# Altium footprint library EEE-FTH101XAP.PcbLib: 3 footprints
Each footprint in its own frame and in the unit in brackets; x right, y up, seen from the top. Pads: shape width x height; smd on the part's side, far side on the other; paste and mask are expansions set on the pad; w line width, h text height; cw(c..) or ccw(c..) is an arc to the next point about the centre after c.
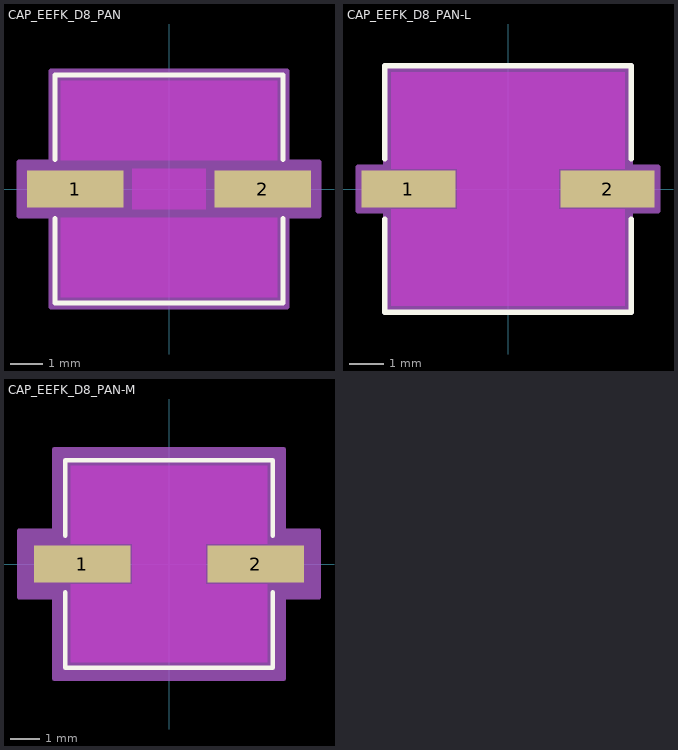
[diagram p0: the footprints below, top view; thin cyan lines are the x and y axes]

## CAP_EEFK_D8_PAN [mm]
pads (2):
  rect 2.991x1.162 smd paste+0 mask+0: 1(-2.903,0) 2(2.903,0)
Top Layer keep-out:
  region: -1.143,-0.632 -1.143,0.632 1.143,0.632 1.143,-0.632
  region: -3.353,0.889 -3.353,3.353 3.353,3.353 3.353,0.889
  region: -3.353,-3.353 -3.353,-0.889 3.353,-0.889 3.353,-3.353
Top Overlay:
  lines w0.152: -3.531,-0.914 -3.531,-3.531 3.531,-3.531 3.531,-0.914 ; -3.531,0.914 -3.531,3.531 3.531,3.531 3.531,0.914
Keep-Out Layer:
  region: -1.143,-0.632 -1.143,0.632 1.143,0.632 1.143,-0.632
Mechanical 13:
  lines w0.025: -3.404,-1.702 -1.702,-3.404 ; -3.404,1.702 -1.702,3.404 ; -3.404,-3.404 3.404,-3.404 3.404,3.404 -3.404,3.404 -3.404,-3.404
Mechanical 15:
  region: -3.658,-0.835 -4.653,-0.835 -4.653,0.835 -3.658,0.835 -3.658,3.658 3.658,3.658 3.658,0.835 4.653,0.835 4.653,-0.835 3.658,-0.835 3.658,-3.658 -3.658,-3.658
  lines w0.152: -4.653,-0.835 -4.653,0.835 -3.658,0.835 -3.658,3.658 3.658,3.658 3.658,0.835 4.653,0.835 4.653,-0.835 3.658,-0.835 3.658,-3.658 -3.658,-3.658 -3.658,-0.835 -4.653,-0.835
3D body "CAP_EEFK_D8_PAN.step": height 8.05, standoff 0, extent -3.899,-3.404 3.899,3.404

## CAP_EEFK_D8_PAN-L [mm]
pads (2):
  rect 2.691x1.062 smd paste+0 mask+0: 1(-2.853,0) 2(2.853,0)
Top Layer keep-out:
  region: -1.457,-0.582 -1.457,0.582 1.457,0.582 1.457,-0.582
  region: -3.353,0.582 -3.353,3.353 3.353,3.353 3.353,0.582
  region: -3.353,-3.353 -3.353,-0.582 3.353,-0.582 3.353,-3.353
Top Overlay:
  lines w0.152: -3.531,-0.864 -3.531,-3.531 3.531,-3.531 3.531,-0.864 ; -3.531,0.864 -3.531,3.531 3.531,3.531 3.531,0.864
  text ".Designator" at -3.492,-0.635 h1.27
Keep-Out Layer:
  region: -1.457,-0.582 -1.457,0.582 1.457,0.582 1.457,-0.582
Mechanical 13:
  lines w0.025: -3.404,-1.702 -1.702,-3.404 ; -3.404,1.702 -1.702,3.404 ; -3.404,-3.404 3.404,-3.404 3.404,3.404 -3.404,3.404 -3.404,-3.404
  text ".Designator" at -3.492,-0.635 h1.27
Mechanical 15:
  region: -3.505,-0.633 -4.3,-0.633 -4.3,0.633 -3.505,0.633 -3.505,3.505 3.505,3.505 3.505,0.633 4.3,0.633 4.3,-0.633 3.505,-0.633 3.505,-3.505 -3.505,-3.505
  lines w0.152: -4.3,-0.633 -4.3,0.633 -3.505,0.633 -3.505,3.505 3.505,3.505 3.505,0.633 4.3,0.633 4.3,-0.633 3.505,-0.633 3.505,-3.505 -3.505,-3.505 -3.505,-0.633 -4.3,-0.633
3D body "CAP_EEFK_D8_PAN.step": height 8.05, standoff 0, extent -3.899,-3.404 3.899,3.404

## CAP_EEFK_D8_PAN-M [mm]
pads (2):
  rect 3.291x1.262 smd paste+0 mask+0: 1(-2.953,0) 2(2.953,0)
Top Layer keep-out:
  region: -1.257,-0.682 -1.257,0.682 1.257,0.682 1.257,-0.682
  region: -3.353,0.682 -3.353,3.353 3.353,3.353 3.353,0.682
  region: -3.353,-3.353 -3.353,-0.682 3.353,-0.682 3.353,-3.353
Top Overlay:
  lines w0.152: -3.531,-0.964 -3.531,-3.531 3.531,-3.531 3.531,-0.964 ; -3.531,0.964 -3.531,3.531 3.531,3.531 3.531,0.964
  text ".Designator" at -3.492,-0.635 h1.27
Keep-Out Layer:
  region: -1.257,-0.682 -1.257,0.682 1.257,0.682 1.257,-0.682
Mechanical 13:
  lines w0.025: -3.404,-1.702 -1.702,-3.404 ; -3.404,1.702 -1.702,3.404 ; -3.404,-3.404 3.404,-3.404 3.404,3.404 -3.404,3.404 -3.404,-3.404
  text ".Designator" at -3.492,-0.635 h1.27
Mechanical 15:
  region: -3.912,-1.139 -5.107,-1.139 -5.107,1.139 -3.912,1.139 -3.912,3.912 3.912,3.912 3.912,1.139 5.107,1.139 5.107,-1.139 3.912,-1.139 3.912,-3.912 -3.912,-3.912
  lines w0.152: -5.107,-1.139 -5.107,1.139 -3.912,1.139 -3.912,3.912 3.912,3.912 3.912,1.139 5.107,1.139 5.107,-1.139 3.912,-1.139 3.912,-3.912 -3.912,-3.912 -3.912,-1.139 -5.107,-1.139
3D body "CAP_EEFK_D8_PAN.step": height 8.05, standoff 0, extent -3.899,-3.404 3.899,3.404